# EAGLE library part OPA192QDGKRQ1 (library shepherd)
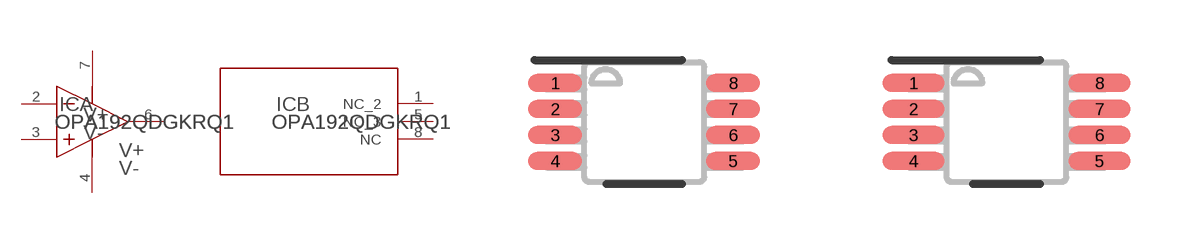
[diagram p10: symbol with the pads of DGK0008A_N; footprints DGK0008A_N, DGK0008A_M]

Designator prefix IC; gates A=OPA192-Q1DGK_A B=OPA192-Q1DGK_B

## OPA192QDGKRQ1  [DGK0008A_N]
1  B:NC_2  pas
2  A:IN-  in
3  A:IN+  in
4  A:V-  pwr
5  B:NC_3  pas
6  A:OUT  out
7  A:V+  pwr
8  B:NC  pas

## OPA192QDGKRQ1DGK0008A_M  [DGK0008A_M]
Pads as for DGK0008A_N

## OPA192QDGKRQ1DGK0008A_L  [DGK0008A_L]
Pads as for DGK0008A_N

## Footprint DGK0008A_N (pad centres in mm)
smd 1.35 x 0.45: 1 -2.225,0.975; 2 -2.225,0.325; 3 -2.225,-0.325; 4 -2.225,-0.975; 5 2.225,-0.975; 6 2.225,-0.325; 7 2.225,0.325; 8 2.225,0.975

## Footprint DGK0008A_M (pad centres in mm)
smd 1.55 x 0.45: 1 -2.325,0.975; 2 -2.325,0.325; 3 -2.325,-0.325; 4 -2.325,-0.975; 5 2.325,-0.975; 6 2.325,-0.325; 7 2.325,0.325; 8 2.325,0.975

## Footprint DGK0008A_L (pad centres in mm)
smd 1.15 x 0.45: 1 -2.125,0.975; 2 -2.125,0.325; 3 -2.125,-0.325; 4 -2.125,-0.975; 5 2.125,-0.975; 6 2.125,-0.325; 7 2.125,0.325; 8 2.125,0.975